# Altium footprint library FM25V02A-DG.PcbLib: 3 footprints
Each footprint in its own frame and in the unit in brackets; x right, y up, seen from the top. Pads: shape width x height; smd on the part's side, far side on the other; paste and mask are expansions set on the pad; w line width, h text height; cw(c..) or ccw(c..) is an arc to the next point about the centre after c.
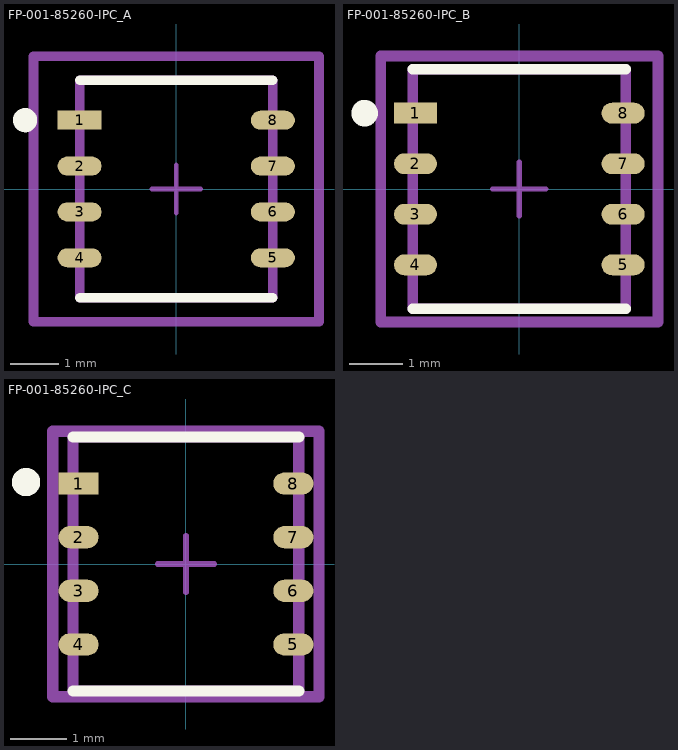
[diagram p0: the footprints below, top view; thin cyan lines are the x and y axes]

## FP-001-85260-IPC_A [mm]
pads (8):
  rect 0.91x0.392 smd paste+0 mask+0: 1(-2.001,1.425)
  rrect100% 0.91x0.392 smd paste+0 mask+0: 2(-2.001,0.475) 3(-2.001,-0.475) 4(-2.001,-1.425) 5(2.001,-1.425) 6(2.001,-0.475) 7(2.001,0.475) 8(2.001,1.425)
Top Overlay:
  circle w0.25: c-3.131,1.425 r0.125
  lines w0.2: -2,-2.25 -2,-2.25 ; -2,-2.25 2,-2.25 ; -2,2.25 -2,2.25 ; -2,2.25 2,2.25 ; 2,-2.25 2,-2.25 ; 2,2.25 2,2.25
Top Assembly:
  lines w0.2: -2.956,-2.75 2.956,-2.75 2.956,2.75 -2.956,2.75 -2.956,-2.75
  text ".Designator" at 0,0.188 h1
Top 3D Body:
  lines w0.2: -2,-2.25 2,-2.25 2,2.25 -2,2.25 -2,-2.25
Top Courtyard:
  lines w0.2: -2.956,-2.75 2.956,-2.75 2.956,2.75 -2.956,2.75 -2.956,-2.75
Top Component Center:
  lines w0.1: -0.5,0 0.5,0 ; 0,-0.5 0,0.5
3D body "IC_Cypress_Semiconductor_FM25V02A-DG_eec.STEP": height 0.25, standoff 0, extent -2.956,-2.75 2.956,2.75

## FP-001-85260-IPC_B [mm]
pads (8):
  rect 0.81x0.392 smd paste+0 mask+0: 1(-1.951,1.425)
  rrect100% 0.81x0.392 smd paste+0 mask+0: 2(-1.951,0.475) 3(-1.951,-0.475) 4(-1.951,-1.425) 5(1.951,-1.425) 6(1.951,-0.475) 7(1.951,0.475) 8(1.951,1.425)
Top Overlay:
  circle w0.25: c-2.906,1.425 r0.125
  lines w0.2: -2,-2.25 -2,-2.25 ; -2,-2.25 2,-2.25 ; -2,2.25 -2,2.25 ; -2,2.25 2,2.25 ; 2,-2.25 2,-2.25 ; 2,2.25 2,2.25
Top Assembly:
  lines w0.2: -2.606,-2.5 2.606,-2.5 2.606,2.5 -2.606,2.5 -2.606,-2.5
  text ".Designator" at 0,0.188 h1
Top 3D Body:
  lines w0.2: -2,-2.25 2,-2.25 2,2.25 -2,2.25 -2,-2.25
Top Courtyard:
  lines w0.2: -2.606,-2.5 2.606,-2.5 2.606,2.5 -2.606,2.5 -2.606,-2.5
Top Component Center:
  lines w0.1: -0.5,0 0.5,0 ; 0,-0.5 0,0.5
3D body "IC_Cypress_Semiconductor_FM25V02A-DG_eec.STEP": height 0.25, standoff 0, extent -2.606,-2.5 2.606,2.5

## FP-001-85260-IPC_C [mm]
pads (8):
  rect 0.71x0.392 smd paste+0 mask+0: 1(-1.901,1.425)
  rrect100% 0.71x0.392 smd paste+0 mask+0: 2(-1.901,0.475) 3(-1.901,-0.475) 4(-1.901,-1.425) 5(1.901,-1.425) 6(1.901,-0.475) 7(1.901,0.475) 8(1.901,1.425)
Top Overlay:
  circle w0.25: c-2.831,1.45 r0.125
  lines w0.2: -2,-2.25 -2,-2.25 ; -2,-2.25 2,-2.25 ; -2,2.25 -2,2.25 ; -2,2.25 2,2.25 ; 2,-2.25 2,-2.25 ; 2,2.25 2,2.25
Top Assembly:
  lines w0.2: -2.356,-2.35 2.356,-2.35 2.356,2.35 -2.356,2.35 -2.356,-2.35
  text ".Designator" at 0,0.188 h1
Top 3D Body:
  lines w0.2: -2,-2.25 2,-2.25 2,2.25 -2,2.25 -2,-2.25
Top Courtyard:
  lines w0.2: -2.356,-2.35 2.356,-2.35 2.356,2.35 -2.356,2.35 -2.356,-2.35
Top Component Center:
  lines w0.1: -0.5,0 0.5,0 ; 0,-0.5 0,0.5
3D body "IC_Cypress_Semiconductor_FM25V02A-DG_eec.STEP": height 0.25, standoff 0, extent -2.356,-2.35 2.356,2.35